# EAGLE library part 6PINHEADFER_TFIX (library PanelFixture)
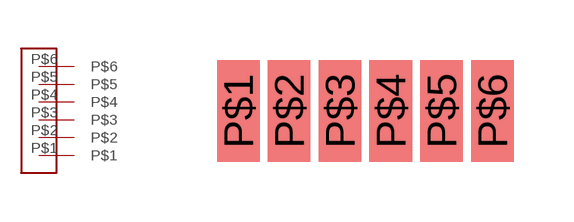
[diagram p0: symbol with the pads of 6PINHEADER_TFIX; footprint 6PINHEADER_TFIX]

Designator prefix -

## 6PINHEADFER_TFIX  [6PINHEADER_TFIX]
P$1  P$1
P$2  P$2
P$3  P$3
P$4  P$4
P$5  P$5
P$6  P$6

## Footprint 6PINHEADER_TFIX (pad centres in mm)
smd 1.067 x 2.54: P$1 0,0; P$2 1.27,0; P$3 2.54,0; P$4 3.81,0; P$5 5.08,0; P$6 6.35,0